# Altium footprint library SHDRRA4W70P0X254_1X4_1016X1170X580P.PcbLib: 1 footprints
Each footprint in its own frame and in the unit in brackets; x right, y up, seen from the top. Pads: shape width x height; smd on the part's side, far side on the other; paste and mask are expansions set on the pad; w line width, h text height; cw(c..) or ccw(c..) is an arc to the next point about the centre after c.
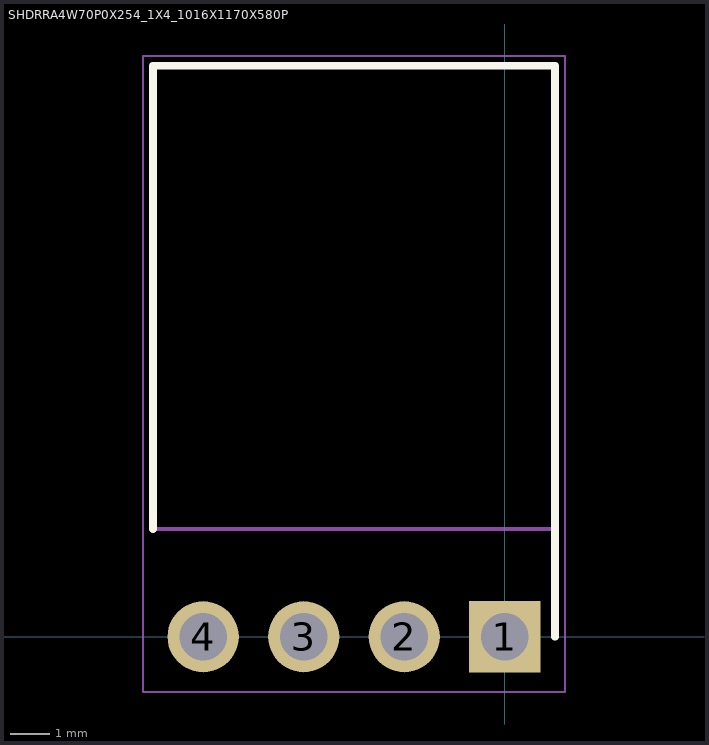
[diagram p0: the footprint, top view; thin cyan lines are the x and y axes]

## SHDRRA4W70P0X254_1X4_1016X1170X580P [mm]
pads (4):
  rect 1.8x1.8 / inner round 1.8 / far side rect 1.8x1.8 hole 1.2: 1(0,0)
  round 1.8 hole 1.2: 2(-2.54,0) 3(-5.08,0) 4(-7.62,0)
Top Overlay:
  lines w0.2: -8.89,2.72 -8.89,14.42 1.27,14.42 1.27,0
Mechanical 15:
  lines w0.1: -8.89,2.72 1.27,2.72 1.27,14.42 -8.89,14.42 -8.89,2.72
Mechanical 20:
  lines w0.05: -9.14,-1.4 1.52,-1.4 1.52,14.67 -9.14,14.67 -9.14,-1.4